# EAGLE library part TPS2511DGN (library TI-TPS2511DGN)
USB Dedicated Charging Port Controller,MSOP-8
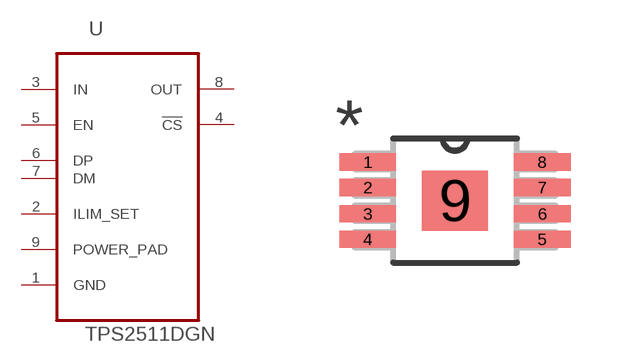
[diagram p0: symbol with the pads of SOP65P490X110-9N; footprint SOP65P490X110-9N]

Designator prefix U

## TPS2511DGN (MPN: TPS2511DGN; OC_FARNELL: 2211372; OC_NEWARK: 44W8612; PACKAGE: MSOP-8; SUPPLIER: TEXAS INSTRUMENTS)  [SOP65P490X110-9N]
1  GND  pas
2  ILIM_SET  in
3  IN  pwr
4  !CS  out
5  EN  in
6  DP
7  DM
8  OUT  out
9  POWER_PAD  pas

## Footprint SOP65P490X110-9N (pad centres in mm)
smd 1.422 x 0.432: 1 -2.184,0.965; 2 -2.184,0.33; 3 -2.184,-0.33; 4 -2.184,-0.965; 5 2.184,-0.965; 6 2.184,-0.33; 7 2.184,0.33; 8 2.184,0.965
smd 1.651 x 1.499: 9 0,0